# EAGLE library part ETH-6X1-LED (library et8mg)
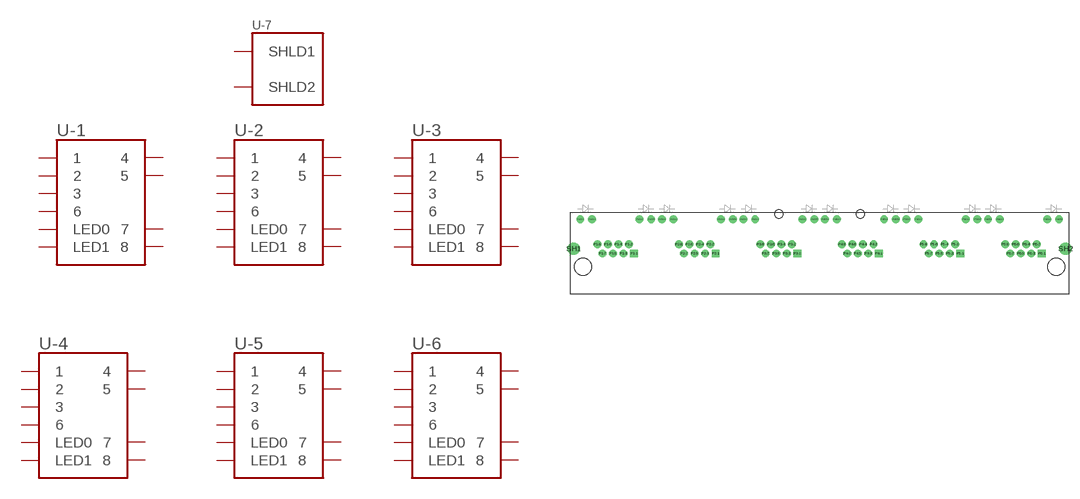
[diagram p3: symbol with the pads of ETH-6X1-LED; footprint ETH-6X1-LED]

Designator prefix -; gates -1=ETH-LED -2=ETH-LED -3=ETH-LED -4=ETH-LED -5=ETH-LED -6=ETH-LED -7=ETH-SHLD

## ETH-6X1-LED  [ETH-6X1-LED]
P1-1  -1:1
P1-2  -1:2
P1-3  -1:3
P1-4  -1:4
P1-5  -1:5
P1-6  -1:6
P1-7  -1:7
P1-8  -1:8
P1-D0.1  -1:LED0
P1-D0.2  -1:LED0
P1-D1.1  -1:LED1
P1-D1.2  -1:LED1
P2-1  -2:1
P2-2  -2:2
P2-3  -2:3
P2-4  -2:4
P2-5  -2:5
P2-6  -2:6
P2-7  -2:7
P2-8  -2:8
P2-D0.1  -2:LED0
P2-D0.2  -2:LED0
P2-D1.1  -2:LED1
P2-D1.2  -2:LED1
P3-1  -3:1
P3-2  -3:2
P3-3  -3:3
P3-4  -3:4
P3-5  -3:5
P3-6  -3:6
P3-7  -3:7
P3-8  -3:8
P3-D0.1  -3:LED0
P3-D0.2  -3:LED0
P3-D1.1  -3:LED1
P3-D1.2  -3:LED1
P4-1  -4:1
P4-2  -4:2
P4-3  -4:3
P4-4  -4:4
P4-5  -4:5
P4-6  -4:6
P4-7  -4:7
P4-8  -4:8
P4-D0.1  -4:LED0
P4-D0.2  -4:LED0
P4-D1.1  -4:LED1
P4-D1.2  -4:LED1
P5-1  -5:1
P5-2  -5:2
P5-3  -5:3
P5-4  -5:4
P5-5  -5:5
P5-6  -5:6
P5-7  -5:7
P5-8  -5:8
P5-D0.1  -5:LED0
P5-D0.2  -5:LED0
P5-D1.1  -5:LED1
P5-D1.2  -5:LED1
P6-1  -6:1
P6-2  -6:2
P6-3  -6:3
P6-4  -6:4
P6-5  -6:5
P6-6  -6:6
P6-7  -6:7
P6-8  -6:8
P6-D0.1  -6:LED0
P6-D0.2  -6:LED0
P6-D1.1  -6:LED1
P6-D1.2  -6:LED1
SH1  -7:SHLD1
SH2  -7:SHLD2

## Footprint ETH-6X1-LED (pad centres in mm)
drill 1.016 square: P1-1 -35.814,2.54; P2-1 -20.066,2.54; P3-1 -4.318,2.54; P4-1 11.43,2.54; P5-1 27.178,2.54; P6-1 42.926,2.54
drill 1.016: P1-2 -36.83,4.318; P1-3 -37.846,2.54; P1-4 -38.862,4.318; P1-5 -39.878,2.54; P1-6 -40.894,4.318; P1-7 -41.91,2.54; P1-8 -42.926,4.318; P1-D0.1 -46.228,9.144; P1-D0.2 -32.512,9.144; P1-D1.1 -43.942,9.144; P1-D1.2 -34.798,9.144; P2-2 -21.082,4.318; P2-3 -22.098,2.54; P2-4 -23.114,4.318; P2-5 -24.13,2.54; P2-6 -25.146,4.318; P2-7 -26.162,2.54; P2-8 -27.178,4.318; P2-D0.1 -30.48,9.144; P2-D0.2 -16.764,9.144; P2-D1.1 -28.194,9.144; P2-D1.2 -19.05,9.144; P3-2 -5.334,4.318; P3-3 -6.35,2.54; P3-4 -7.366,4.318; P3-5 -8.382,2.54; P3-6 -9.398,4.318; P3-7 -10.414,2.54; P3-8 -11.43,4.318; P3-D0.1 -14.732,9.144; P3-D0.2 -1.016,9.144; P3-D1.1 -12.446,9.144; P3-D1.2 -3.302,9.144; P4-2 10.414,4.318; P4-3 9.398,2.54; P4-4 8.382,4.318; P4-5 7.366,2.54; P4-6 6.35,4.318; P4-7 5.334,2.54; P4-8 4.318,4.318; P4-D0.1 1.016,9.144; P4-D0.2 14.732,9.144; P4-D1.1 3.302,9.144; P4-D1.2 12.446,9.144; P5-2 26.162,4.318; P5-3 25.146,2.54; P5-4 24.13,4.318; P5-5 23.114,2.54; P5-6 22.098,4.318; P5-7 21.082,2.54; P5-8 20.066,4.318; P5-D0.1 16.764,9.144; P5-D0.2 30.48,9.144; P5-D1.1 19.05,9.144; P5-D1.2 28.194,9.144; P6-2 41.91,4.318; P6-3 40.894,2.54; P6-4 39.878,4.318; P6-5 38.862,2.54; P6-6 37.846,4.318; P6-7 36.83,2.54; P6-8 35.814,4.318; P6-D0.1 32.512,9.144; P6-D0.2 46.228,9.144; P6-D1.1 34.798,9.144; P6-D1.2 43.942,9.144
drill 1.575: SH1 -47.498,3.429; SH2 47.498,3.429
hole 3.251 at -45.72,0
hole 3.251 at 45.72,0
hole 1.575 at -7.874,10.16
hole 1.575 at 7.874,10.16